# Altium schematic symbol library 796136-1.SchLib: 1 symbol
Pins are listed as number, name and electrical type; pins without a type are passive.

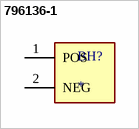
[diagram p0: symbol 796136-1]

## 796136-1
designator BH?
BATTERY HOLDER COIN 20MM SMD; MP: 796136-1; Package: None; Value: *; Availability: Unavailable; Price: None
footprint 796136-1
pins: 1 POS, 2 NEG